# Altium integrated library Ceramic Capacitors.IntLib: 22 symbols
Pins are listed as number, name and electrical type; pins without a type are passive.

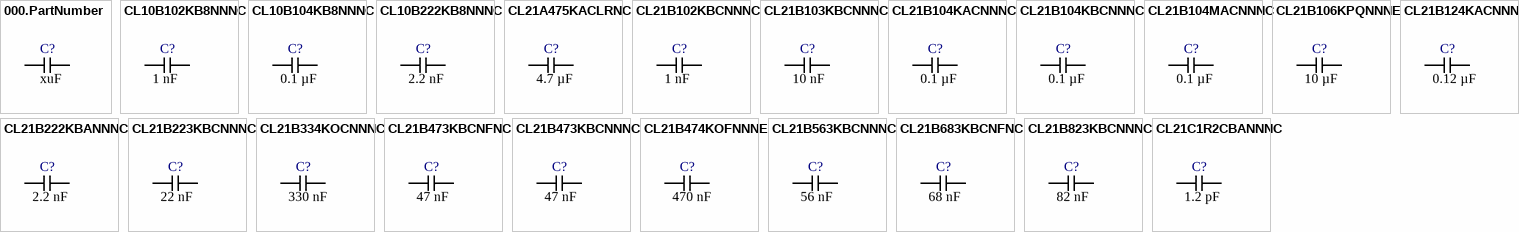
[diagram p0: symbols 000.PartNumber to CL21C1R2CBANNNC]

## 000.PartNumber
designator C?  Capacitance: xuF  (hidden comment: *)
Digikey Description; Manufacturer: *; Series: *; Package: *; Tolerance: *; Voltage - Rated: *; Temperature Coefficient: *; Operating Temperature: *; Features: *; Ratings: *; Applications: *; Mounting Type: *; Package / Case: *; Size / Dimension: *; Height - Seated (Max): *; Thickness (Max): *; Lead Spacing: *; Lead Style: *; Ozdisan Link: *; Digikey Link: *; Farnell TR Link: *; Mouser Link: *
pins: 1, 2

## CL10B102KB8NNNC
designator C?  Capacitance: 1 nF  (hidden comment: *)
CAP CER 1000PF 50V X7R 0603; Manufacturer: Samsung Electro-Mechanics; Tolerance: ±10%; Series: CL; Package: Tape & Reel (TR); Voltage - Rated: 50 V; Temperature Coefficient: X7R; Operating Temperature: -55°C ~ 125°C; Features: -; Ratings: -; Applications: General Purpose; Mounting Type: Surface Mount, MLCC; Package / Case: 0603 (1608 Metric); Size / Dimension: 0.063" L x 0.031" W (1.60mm x 0.80mm); Height - Seated (Max): -; Thickness (Max): 0.035" (0.90mm); Lead Spacing: -; Lead Style: -; Ozdisan Link: https://ozdisan.com/pasif-komponentler/kondansatorler/smt-smd-ve-mlcc-kondansatorler/CL10B102KB8NNNC; Digikey Link: https://www.digikey.com/en/products/detail/samsung-electro-mechanics/CL10B102KB8NNNC/3886676?s=N4IgTCBcDaIMIBkCMAGAQqsBpNAOAcoXCALoC%2BQA; Farnell TR Link: -; Mouser Link: https://www.mouser.com.tr/ProductDetail/Samsung-Electro-Mechanics/CL10B102KB8NNNC?qs=%2Fha2pyFaduiJn%2FK9wwpa2yRVn3rmUYGk191OS%2FSjQX9mQDNh7873vg%3D%3D
footprint SAMSUNG_CAP_0603_090
pins: 1, 2

## CL10B104KB8NNNC
designator C?  Capacitance: 0.1 µF  (hidden comment: *)
CAP CER 0.1UF 50V X7R 0603; Manufacturer: Samsung Electro-Mechanics; Tolerance: ±10%; Series: CL; Package: Tape & Reel (TR); Voltage - Rated: 50 V; Temperature Coefficient: X7R; Operating Temperature: -55°C ~ 125°C; Features: -; Ratings: -; Applications: General Purpose; Mounting Type: Surface Mount, MLCC; Package / Case: 0603 (1608 Metric); Size / Dimension: 0.063" L x 0.031" W (1.60mm x 0.80mm); Height - Seated (Max): -; Thickness (Max): 0.035" (0.90mm); Lead Spacing: -; Lead Style: -; Ozdisan Link: https://ozdisan.com/pasif-komponentler/kondansatorler/smt-smd-ve-mlcc-kondansatorler/CL10B104KB8NNNC; Digikey Link: https://www.digikey.com/en/products/detail/samsung-electro-mechanics/CL10B104KB8NNNC/3886658?s=N4IgTCBcDaIMIBkCMAGAQqgLAaTQDgDki4QBdAXyA; Farnell TR Link: -; Mouser Link: https://www.mouser.com.tr/ProductDetail/Samsung-Electro-Mechanics/CL10B104KB8NNNC?qs=%2Fha2pyFaduh3vwrZSGoh3baPWkBC%252BUMZiRGL4SzbSQXrx0%252B0FRQ4gA%3D%3D
footprint SAMSUNG_CAP_0603_090
pins: 1, 2

## CL10B222KB8NNNC
designator C?  Capacitance: 2.2 nF  (hidden comment: *)
CAP CER 2200PF 50V X7R 0603; Manufacturer: Samsung Electro-Mechanics; Tolerance: ±10%; Series: CL; Package: Tape & Reel (TR); Voltage - Rated: 50 V; Temperature Coefficient: X7R; Operating Temperature: -55°C ~ 125°C; Features: -; Ratings: -; Applications: General Purpose; Mounting Type: Surface Mount, MLCC; Package / Case: 0603 (1608 Metric); Size / Dimension: 0.063" L x 0.031" W (1.60mm x 0.80mm); Height - Seated (Max): -; Thickness (Max): 0.035" (0.90mm); Lead Spacing: -; Lead Style: -; Ozdisan Link: https://ozdisan.com/pasif-komponentler/kondansatorler/smt-smd-ve-mlcc-kondansatorler/CL10B222KB8NNNC; Digikey Link: https://www.digikey.com/en/products/detail/samsung-electro-mechanics/CL10B222KB8NNNC/3886768?s=N4IgTCBcDaIMIBkCMAGAQmTBpNAOAcoXCALoC%2BQA; Farnell TR Link: https://tr.farnell.com/samsung-electro-mechanics/cl10b222kb8nnnc/cap-2200pf-50v-mlcc-0603/dp/3013424?st=cl10b222kb8nnnc; Mouser Link: https://www.mouser.com.tr/ProductDetail/Samsung-Electro-Mechanics/CL10B222KB8NNNC?qs=%2Fha2pyFaduiYAieMNAGY%2Fbybcsm2neKaXkwr9Z%2FZUBvjhuhemCiTrg%3D%3D
footprint SAMSUNG_CAP_0603_090
pins: 1, 2

## CL21A475KACLRNC
designator C?  Capacitance: 4.7 µF  (hidden comment: *)
CAP CER 4.7UF 25V X5R 0805; Manufacturer: Samsung Electro-Mechanics; Tolerance: ±10%; Series: CL; Package: Tape & Reel (TR); Voltage - Rated: 25 V; Temperature Coefficient: X5R; Operating Temperature: -55°C ~ 85°C; Features: -; Ratings: -; Applications: General Purpose; Mounting Type: Surface Mount, MLCC; Package / Case: 0805 (2012 Metric); Size / Dimension: 0.079" L x 0.049" W (2.00mm x 1.25mm); Height - Seated (Max): -; Thickness (Max): 0.037" (0.95mm); Lead Spacing: -; Lead Style: -; Ozdisan Link: https://ozdisan.com/Product/Detail/522727/CL21A475KACLRNC; Digikey Link: https://www.digikey.com/en/products/detail/samsung-electro-mechanics/CL21A475KACLRNC/3888073; Farnell TR Link: -; Mouser Link: https://www.mouser.com.tr/ProductDetail/Samsung-Electro-Mechanics/CL21A475KACLRNC?qs=%2Fha2pyFadugAvHN3ffWg%252BGfZhtrLwg0JULjW8frdpBS5NQOssuNBzA%3D%3D
footprint SAMSUNG_CAP_0805_095
pins: 1, 2

## CL21B102KBCNNNC
designator C?  Capacitance: 1 nF  (hidden comment: *)
CAP CER 1000PF 50V X7R 0805; Manufacturer: Samsung Electro-Mechanics; Tolerance: ±10%; Series: CL; Package: Tape & Reel (TR); Voltage - Rated: 50 V; Temperature Coefficient: X7R; Operating Temperature: -55°C ~ 125°C; Features: -; Ratings: -; Applications: General Purpose; Mounting Type: Surface Mount, MLCC; Package / Case: 0805 (2012 Metric); Size / Dimension: 0.079" L x 0.049" W (2.00mm x 1.25mm); Height - Seated (Max): -; Thickness (Max): 0.037" (0.95mm); Lead Spacing: -; Lead Style: -; Ozdisan Link: https://ozdisan.com/Product/Detail/522753/CL21B102KBCNNNC; Digikey Link: https://www.digikey.com/en/products/detail/samsung-electro-mechanics/CL21B102KBCNNNC/3888083; Farnell TR Link: https://tr.farnell.com/samsung-electro-mechanics/cl21b102kbcnnnc/cap-1000pf-50v-mlcc-0805/dp/3013468?st=cl21b102kbcnnnc; Mouser Link: https://www.mouser.com.tr/ProductDetail/Samsung-Electro-Mechanics/CL21B102KBCNNNC?qs=%2Fha2pyFaduhkmFTRx09wFJgMRAcaMEBnmrBimjxYNLR3bzdd7r0NoQ%3D%3D
footprint SAMSUNG_CAP_0805_095
pins: 1, 2

## CL21B103KBCNNNC
designator C?  Capacitance: 10 nF  (hidden comment: *)
CAP CER 10000PF 50V X7R 0805; Manufacturer: Samsung Electro-Mechanics; Tolerance: ±10%; Series: CL; Package: Tape & Reel (TR); Voltage - Rated: 50 V; Temperature Coefficient: X7R; Operating Temperature: -55°C ~ 125°C; Features: -; Ratings: -; Applications: General Purpose; Mounting Type: Surface Mount, MLCC; Package / Case: 0805 (2012 Metric); Size / Dimension: 0.079" L x 0.049" W (2.00mm x 1.25mm); Height - Seated (Max): -; Thickness (Max): 0.037" (0.95mm); Lead Spacing: -; Lead Style: -; Ozdisan Link: https://ozdisan.com/Product/Detail/522766/CL21B103KBCNNNC; Digikey Link: https://www.digikey.com/en/products/detail/samsung-electro-mechanics/CL21B103KBCNNNC/3886736; Farnell TR Link: https://tr.farnell.com/samsung-electro-mechanics/cl21b103kbcnnnc/cap-0-01uf-50v-mlcc-0805/dp/3013471?st=cl21b103kbcnnnc; Mouser Link: https://www.mouser.com.tr/ProductDetail/Samsung-Electro-Mechanics/CL21B103KBCNNNC?qs=%2Fha2pyFaduj7LZ8u4cxQ0nzdLTBdP9I9a%252B2mvZYcEjF4uMTtJAnzEQ%3D%3D
footprint SAMSUNG_CAP_0805_095
pins: 1, 2

## CL21B104KACNNNC
designator C?  Capacitance: 0.1 µF  (hidden comment: *)
CAP CER 0.1UF 25V X7R 0805; Manufacturer: Samsung Electro-Mechanics; Tolerance: ±10%; Series: CL; Package: Tape & Reel (TR); Voltage - Rated: 25 V; Temperature Coefficient: X7R; Operating Temperature: -55°C ~ 125°C; Features: -; Ratings: -; Applications: General Purpose; Mounting Type: Surface Mount, MLCC; Package / Case: 0805 (2012 Metric); Size / Dimension: 0.079" L x 0.049" W (2.00mm x 1.25mm); Height - Seated (Max): -; Thickness (Max): 0.037" (0.95mm); Lead Spacing: -; Lead Style: -; Ozdisan Link: https://ozdisan.com/Product/Detail/522774/CL21B104KACNNNC; Digikey Link: https://www.digikey.com/en/products/detail/samsung-electro-mechanics/CL21B104KACNNNC/3886757; Farnell TR Link: https://tr.farnell.com/samsung-electro-mechanics/cl21b104kacnnnc/cap-0-1uf-25v-mlcc-0805/dp/3013475?st=cl21b104kacnnnc; Mouser Link: https://www.mouser.com.tr/ProductDetail/Samsung-Electro-Mechanics/CL21B104KACNNNC?qs=%2Fha2pyFadujFXW%252BiL8U%252B%2FvtZkNWIHBymAFFX1avOCrI5l6KFiFVS%2Fw%3D%3D
footprint SAMSUNG_CAP_0805_095
pins: 1, 2

## CL21B104KBCNNNC
designator C?  Capacitance: 0.1 µF  (hidden comment: *)
CAP CER 0.1UF 50V X7R 0805; Manufacturer: Samsung Electro-Mechanics; Tolerance: ±10%; Series: CL; Package: Tape & Reel (TR); Voltage - Rated: 50 V; Temperature Coefficient: X7R; Operating Temperature: -55°C ~ 125°C; Features: -; Ratings: -; Applications: General Purpose; Mounting Type: Surface Mount, MLCC; Package / Case: 0805 (2012 Metric); Size / Dimension: 0.079" L x 0.049" W (2.00mm x 1.25mm); Height - Seated (Max): -; Thickness (Max): 0.037" (0.95mm); Lead Spacing: -; Lead Style: -; Ozdisan Link: https://ozdisan.com/pasif-komponentler/kondansatorler/smt-smd-ve-mlcc-kondansatorler/CL21B104KBCNNNC; Digikey Link: https://www.digikey.com/en/products/detail/samsung-electro-mechanics/CL21B104KBCNNNC/3886661?s=N4IgTCBcDaIMIBkwEYBCyAMAWA0quAckXCALoC%2BQA; Farnell TR Link: https://tr.farnell.com/samsung-electro-mechanics/cl21b104kbcnnnc/cap-0-1uf-50v-mlcc-0805/dp/3013476?st=cl21b104kbcnnnc; Mouser Link: https://www.mouser.com.tr/ProductDetail/Samsung-Electro-Mechanics/CL21B104KBCNNNC?qs=%2Fha2pyFadujFXW%252BiL8U%252B%2FryBQ%252B7lRoQna5W6%252BZmAlbT89MAoRk9mQg%3D%3D
footprint SAMSUNG_CAP_0805_095
pins: 1, 2

## CL21B104MACNNNC
designator C?  Capacitance: 0.1 µF  (hidden comment: *)
CAP CER 0.1UF 25V X7R 0805; Manufacturer: Samsung Electro-Mechanics; Tolerance: ±20%; Series: CL; Package: Tape & Reel (TR); Voltage - Rated: 25 V; Temperature Coefficient: X7R; Operating Temperature: -55°C ~ 125°C; Features: -; Ratings: -; Applications: General Purpose; Mounting Type: Surface Mount, MLCC; Package / Case: 0805 (2012 Metric); Size / Dimension: 0.079" L x 0.049" W (2.00mm x 1.25mm); Height - Seated (Max): -; Thickness (Max): 0.037" (0.95mm); Lead Spacing: -; Lead Style: -; Ozdisan Link: https://ozdisan.com/Product/Detail/522796/CL21B104MACNNNC; Digikey Link: https://www.digikey.com/en/products/detail/samsung-electro-mechanics/CL21B104MACNNNC/3888107; Farnell TR Link: -; Mouser Link: https://www.mouser.com.tr/ProductDetail/Samsung-Electro-Mechanics/CL21B104MACNNNC?qs=%2Fha2pyFadujFXW%252BiL8U%252B%2FiV47Qe1U9BIzBMVgze6ptyq5Ss294ZiTQ%3D%3D
footprint SAMSUNG_CAP_0805_095
pins: 1, 2

## CL21B106KPQNNNE
designator C?  Capacitance: 10 µF  (hidden comment: *)
CAP CER 10UF 10V X7R 0805; Manufacturer: Samsung Electro-Mechanics; Tolerance: ±10%; Series: CL; Package: Tape & Reel (TR); Voltage - Rated: 10 V; Temperature Coefficient: X7R; Operating Temperature: -55°C ~ 125°C; Features: -; Ratings: -; Applications: General Purpose; Mounting Type: Surface Mount, MLCC; Package / Case: 0805 (2012 Metric); Size / Dimension: 0.079" L x 0.049" W (2.00mm x 1.25mm); Height - Seated (Max): -; Thickness (Max): 0.055" (1.40mm); Lead Spacing: -; Lead Style: -; Ozdisan Link: https://ozdisan.com/pasif-komponentler/kondansatorler/smt-smd-ve-mlcc-kondansatorler/CL21B106KPQNNNE; Digikey Link: https://www.digikey.com/en/products/detail/samsung-electro-mechanics/CL21B106KPQNNNE/3887422?s=N4IgTCBcDaIMIBkwEYBCyAMA2A0gBQEUA5EgURAF0BfIA; Farnell TR Link: https://tr.farnell.com/samsung-electro-mechanics/cl21b106kpqnnne/cap-10uf-10v-mlcc-0805/dp/3013487?st=cl21b106kpqnnne; Mouser Link: https://www.mouser.com.tr/ProductDetail/Samsung-Electro-Mechanics/CL21B106KPQNNNE?qs=%2Fha2pyFaduisbGK%2FkazQqsx26hv85I%2FU3LN2SnO%2F%2FMZB%252BS3EOrRSdQ%3D%3D
footprint SAMSUNG_CAP_0805_140
pins: 1, 2

## CL21B124KACNNNC
designator C?  Capacitance: 0.12 µF  (hidden comment: *)
CAP CER 0.12UF 25V X7R 0805; Manufacturer: Samsung Electro-Mechanics; Tolerance: ±10%; Series: CL; Package: Tape & Reel (TR); Voltage - Rated: 25 V; Temperature Coefficient: X7R; Operating Temperature: -55°C ~ 125°C; Features: -; Ratings: -; Applications: General Purpose; Mounting Type: Surface Mount, MLCC; Package / Case: 0805 (2012 Metric); Size / Dimension: 0.079" L x 0.049" W (2.00mm x 1.25mm); Height - Seated (Max): -; Thickness (Max): 0.037" (0.95mm); Lead Spacing: -; Lead Style: -; Ozdisan Link: https://ozdisan.com/Product/Detail/522825/CL21B124KACNNNC; Digikey Link: https://www.digikey.com/en/products/detail/samsung-electro-mechanics/CL21B124KACNNNC/3888114; Farnell TR Link: -; Mouser Link: -
footprint SAMSUNG_CAP_0805_095
pins: 1, 2

## CL21B222KBANNNC
designator C?  Capacitance: 2.2 nF  (hidden comment: *)
CAP CER 2200PF 50V X7R 0805; Manufacturer: Samsung Electro-Mechanics; Tolerance: ±10%; Series: CL; Package: Tape & Reel (TR); Voltage - Rated: 50 V; Temperature Coefficient: X7R; Operating Temperature: -55°C ~ 125°C; Features: -; Ratings: -; Applications: General Purpose; Mounting Type: Surface Mount, MLCC; Package / Case: 0805 (2012 Metric); Size / Dimension: 0.079" L x 0.049" W (2.00mm x 1.25mm); Height - Seated (Max): -; Thickness (Max): 0.030" (0.75mm); Lead Spacing: -; Lead Style: -; Ozdisan Link: https://ozdisan.com/pasif-komponentler/kondansatorler/smt-smd-ve-mlcc-kondansatorler/CL21B222KBANNNC; Digikey Link: https://www.digikey.com/en/products/detail/samsung-electro-mechanics/CL21B222KBANNNC/3886829?s=N4IgTCBcDaIMIBkwEYBCYMGlUEEByBcIAugL5A; Farnell TR Link: https://tr.farnell.com/samsung-electro-mechanics/cl21b222kbannnc/cap-2200pf-50v-mlcc-0805/dp/3013488?st=cl21b222kbannnc; Mouser Link: https://www.mouser.com.tr/ProductDetail/Samsung-Electro-Mechanics/CL21B222KBANNNC?qs=%2Fha2pyFaduiLTU3J06PqFxt2BNjutSOsQsG893PDXjTNbNe2qJVVNw%3D%3D
footprint SAMSUNG_CAP_0805_075
pins: 1, 2

## CL21B223KBCNNNC
designator C?  Capacitance: 22 nF  (hidden comment: *)
CAP CER 0.022UF 50V X7R 0805; Manufacturer: Samsung Electro-Mechanics; Tolerance: ±10%; Series: CL; Package: Tape & Reel (TR); Voltage - Rated: 50 V; Temperature Coefficient: X7R; Operating Temperature: -55°C ~ 125°C; Features: -; Ratings: -; Applications: General Purpose; Mounting Type: Surface Mount, MLCC; Package / Case: 0805 (2012 Metric); Size / Dimension: 0.079" L x 0.049" W (2.00mm x 1.25mm); Height - Seated (Max): -; Thickness (Max): 0.037" (0.95mm); Lead Spacing: -; Lead Style: -; Ozdisan Link: https://ozdisan.com/Product/Detail/522866/CL21B223KBCNNNC; Digikey Link: https://www.digikey.com/en/products/detail/samsung-electro-mechanics/CL21B223KBCNNNC/3887453; Farnell TR Link: -; Mouser Link: -
footprint SAMSUNG_CAP_0805_095
pins: 1, 2

## CL21B334KOCNNNC
designator C?  Capacitance: 330 nF  (hidden comment: *)
CAP CER 0.33UF 16V X7R 0805; Manufacturer: Samsung Electro-Mechanics; Tolerance: ±10%; Series: CL; Package: Tape & Reel (TR); Voltage - Rated: 16 V; Temperature Coefficient: X7R; Operating Temperature: -55°C ~ 125°C; Features: -; Ratings: -; Applications: General Purpose; Mounting Type: Surface Mount, MLCC; Package / Case: 0805 (2012 Metric); Size / Dimension: 0.079" L x 0.049" W (2.00mm x 1.25mm); Height - Seated (Max): -; Thickness (Max): 0.037" (0.95mm); Lead Spacing: -; Lead Style: -; Ozdisan Link: https://ozdisan.com/Product/Detail/10432/CL21B334KOCNNNC; Digikey Link: https://www.digikey.com/en/products/detail/samsung-electro-mechanics/CL21B334KOCNNNC/3887455; Farnell TR Link: -; Mouser Link: https://www.mouser.com.tr/ProductDetail/Samsung-Electro-Mechanics/CL21B334KOCNNNC?qs=%2Fha2pyFaduiK0NrmjMURF4baaESMZ82uo1667i8mJbRxYvIuqrWt1Q%3D%3D
footprint SAMSUNG_CAP_0805_095
pins: 1, 2

## CL21B473KBCNFNC
designator C?  Capacitance: 47 nF  (hidden comment: *)
CAP CER 0.047UF 50V X7R 0805; Manufacturer: Samsung Electro-Mechanics; Tolerance: ±10%; Series: CL; Package: Tape & Reel (TR); Voltage - Rated: 50 V; Temperature Coefficient: X7R; Operating Temperature: -55°C ~ 125°C; Features: -; Ratings: -; Applications: General Purpose; Mounting Type: Surface Mount, MLCC; Package / Case: 0805 (2012 Metric); Size / Dimension: 0.079" L x 0.049" W (2.00mm x 1.25mm); Height - Seated (Max): -; Thickness (Max): 0.037" (0.95mm); Lead Spacing: -; Lead Style: -; Ozdisan Link: https://ozdisan.com/Product/Detail/522950/CL21B473KBCNFNC; Digikey Link: https://www.digikey.com/en/products/detail/samsung-electro-mechanics/CL21B473KBCNFNC/3888187; Farnell TR Link: -; Mouser Link: https://www.mouser.com.tr/ProductDetail/Samsung-Electro-Mechanics/CL21B473KBCNFNC?qs=%2Fha2pyFaduhAWSjIB%252BKb5oKXmGZQtpIbPJsVK%2F5%2FGyLKJvzTkhJOqg%3D%3D
footprint SAMSUNG_CAP_0805_095
pins: 1, 2

## CL21B473KBCNNNC
designator C?  Capacitance: 47 nF  (hidden comment: *)
CAP CER 0.047UF 50V X7R 0805; Manufacturer: Samsung Electro-Mechanics; Tolerance: ±10%; Series: CL; Package: Tape & Reel (TR); Voltage - Rated: 50 V; Temperature Coefficient: X7R; Operating Temperature: -55°C ~ 125°C; Features: -; Ratings: -; Applications: General Purpose; Mounting Type: Surface Mount, MLCC; Package / Case: 0805 (2012 Metric); Size / Dimension: 0.079" L x 0.049" W (2.00mm x 1.25mm); Height - Seated (Max): -; Thickness (Max): 0.037" (0.95mm); Lead Spacing: -; Lead Style: -; Ozdisan Link: https://ozdisan.com/Product/Detail/10433/CL21B473KBCNNNC; Digikey Link: https://www.digikey.com/en/products/detail/samsung-electro-mechanics/CL21B473KBCNNNC/3886908; Farnell TR Link: -; Mouser Link: https://www.mouser.com.tr/ProductDetail/Samsung-Electro-Mechanics/CL21B473KBCNNNC?qs=%2Fha2pyFaduhAWSjIB%252BKb5l1eNcYSMLZw%2F9R8%252B5IRHjcMKh9E96jLUg%3D%3D
footprint SAMSUNG_CAP_0805_095
pins: 1, 2

## CL21B474KOFNNNE
designator C?  Capacitance: 470 nF  (hidden comment: *)
CAP CER 0.47UF 16V X7R 0805; Manufacturer: Samsung Electro-Mechanics; Tolerance: ±10%; Series: CL; Package: Tape & Reel (TR); Voltage - Rated: 16 V; Temperature Coefficient: X7R; Operating Temperature: -55°C ~ 125°C; Features: -; Ratings: -; Applications: General Purpose; Mounting Type: Surface Mount, MLCC; Package / Case: 0805 (2012 Metric); Size / Dimension: 0.079" L x 0.049" W (2.00mm x 1.25mm); Height - Seated (Max): -; Thickness (Max): 0.053" (1.35mm); Lead Spacing: -; Lead Style: -; Ozdisan Link: https://ozdisan.com/pasif-komponentler/kondansatorler/smt-smd-ve-mlcc-kondansatorler/CL21B474KOFNNNE; Digikey Link: https://www.digikey.com/en/products/detail/samsung-electro-mechanics/CL21B474KOFNNNE/3886857?s=N4IgTCBcDaIMIBkwEYBCAWA7Og0geQDEA5EgURAF0BfIA; Farnell TR Link: -; Mouser Link: https://www.mouser.com.tr/ProductDetail/Samsung-Electro-Mechanics/CL21B474KOFNNNE?qs=yOVawPpwOwlkiG%252BgRhp%2FPQ%3D%3D
footprint SAMSUNG_CAP_0805_135
pins: 1, 2

## CL21B563KBCNNNC
designator C?  Capacitance: 56 nF  (hidden comment: *)
CAP CER 0.056UF 50V X7R 0805; Manufacturer: Samsung Electro-Mechanics; Tolerance: ±10%; Series: CL; Package: Tape & Reel (TR); Voltage - Rated: 50 V; Temperature Coefficient: X7R; Operating Temperature: -55°C ~ 125°C; Features: -; Ratings: -; Applications: General Purpose; Mounting Type: Surface Mount, MLCC; Package / Case: 0805 (2012 Metric); Size / Dimension: 0.079" L x 0.049" W (2.00mm x 1.25mm); Height - Seated (Max): -; Thickness (Max): 0.037" (0.95mm); Lead Spacing: -; Lead Style: -; Ozdisan Link: https://ozdisan.com/Product/Detail/522989/CL21B563KBCNNNC; Digikey Link: https://www.digikey.com/en/products/detail/samsung-electro-mechanics/CL21B563KBCNNNC/3888194; Farnell TR Link: -; Mouser Link: -
footprint SAMSUNG_CAP_0805_095
pins: 1, 2

## CL21B683KBCNFNC
designator C?  Capacitance: 68 nF  (hidden comment: *)
CAP CER 0.068UF 50V X7R 0805; Manufacturer: Samsung Electro-Mechanics; Tolerance: ±10%; Series: CL; Package: Tape & Reel (TR); Voltage - Rated: 50 V; Temperature Coefficient: X7R; Operating Temperature: -55°C ~ 125°C; Features: -; Ratings: -; Applications: General Purpose; Mounting Type: Surface Mount, MLCC; Package / Case: 0805 (2012 Metric); Size / Dimension: 0.079" L x 0.049" W (2.00mm x 1.25mm); Height - Seated (Max): -; Thickness (Max): 0.037" (0.95mm); Lead Spacing: -; Lead Style: -; Ozdisan Link: https://ozdisan.com/Product/Detail/522997/CL21B683KBCNFNC; Digikey Link: https://www.digikey.com/en/products/detail/samsung-electro-mechanics/CL21B683KBCNFNC/3888201; Farnell TR Link: -; Mouser Link: -
footprint SAMSUNG_CAP_0805_095
pins: 1, 2

## CL21B823KBCNNNC
designator C?  Capacitance: 82 nF  (hidden comment: *)
CAP CER 0.082UF 50V X7R 0805; Manufacturer: Samsung Electro-Mechanics; Tolerance: ±10%; Series: CL; Package: Tape & Reel (TR); Voltage - Rated: 50 V; Temperature Coefficient: X7R; Operating Temperature: -55°C ~ 125°C; Features: -; Ratings: -; Applications: General Purpose; Mounting Type: Surface Mount, MLCC; Package / Case: 0805 (2012 Metric); Size / Dimension: 0.079" L x 0.049" W (2.00mm x 1.25mm); Height - Seated (Max): -; Thickness (Max): 0.037" (0.95mm); Lead Spacing: -; Lead Style: -; Ozdisan Link: https://ozdisan.com/Product/Detail/523006/CL21B823KBCNNNC; Digikey Link: https://www.digikey.com/en/products/detail/samsung-electro-mechanics/CL21B823KBCNNNC/3888205; Farnell TR Link: -; Mouser Link: -
footprint SAMSUNG_CAP_0805_095
pins: 1, 2

## CL21C1R2CBANNNC
designator C?  Capacitance: 1.2 pF  (hidden comment: *)
CAP CER 1.2PF 50V C0G/NP0 0805; Manufacturer: Samsung Electro-Mechanics; Tolerance: ±0.25pF; Temperature Coefficient: C0G, NP0; Series: CL; Package: Tape & Reel (TR); Voltage - Rated: 50 V; Operating Temperature: -55°C ~ 125°C; Features: -; Ratings: -; Applications: General Purpose; Mounting Type: Surface Mount, MLCC; Package / Case: 0805 (2012 Metric); Size / Dimension: 0.079" L x 0.049" W (2.00mm x 1.25mm); Height - Seated (Max): -; Thickness (Max): 0.030" (0.75mm); Lead Spacing: -; Lead Style: -; Ozdisan Link: https://ozdisan.com/pasif-komponentler/kondansatorler/smt-smd-ve-mlcc-kondansatorler/CL21C1R2CBANNNC; Digikey Link: https://www.digikey.com/en/products/detail/samsung-electro-mechanics/CL21C1R2CBANNNC/3888254?s=N4IgTCBcDaIMIBkwEY7IEpjgIQIIDlC4QBdAXyA; Farnell TR Link: -; Mouser Link: -
footprint SAMSUNG_CAP_0805_075
pins: 1, 2